# Altium schematic symbol library SUPI_MediumR2.SchLib: 20 symbols
Pins are listed as number, name and electrical type; pins without a type are passive.

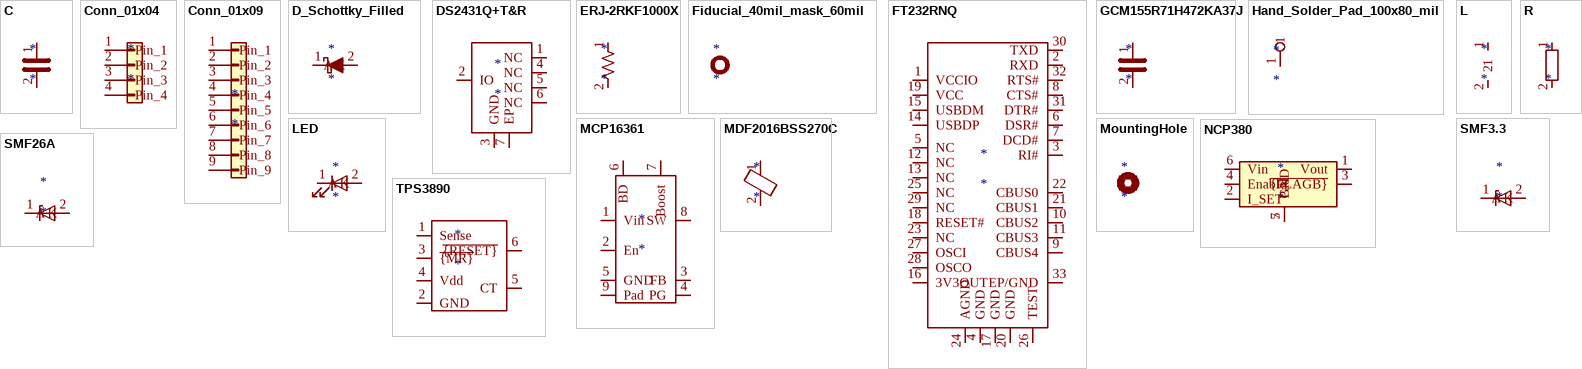
[diagram p0: symbols C to TPS3890]

## C
designator *
pins: 1, 2

## Conn_01x04
designator *
pins: 1 Pin_1, 2 Pin_2, 3 Pin_3, 4 Pin_4

## Conn_01x09
designator *
pins: 1 Pin_1, 2 Pin_2, 3 Pin_3, 4 Pin_4, 5 Pin_5, 6 Pin_6, 7 Pin_7, 8 Pin_8, 9 Pin_9

## D_Schottky_Filled
designator *
pins: 1 K, 2 A

## DS2431Q+T&R
designator *
pins: 1 NC, 2 IO, 3 GND, 4 NC, 5 NC, 6 NC, 7 EP

## ERJ-2RKF1000X
designator *
pins: 1, 2

## Fiducial_40mil_mask_60mil
designator *

## FT232RNQ
designator *
pins: 1 VCCIO, 2 RXD, 3 RI#, 4 GND, 5 NC, 6 DSR#, 7 DCD#, 8 CTS#, 9 CBUS4, 10 CBUS2, 11 CBUS3, 12 NC, 13 NC, 14 USBDP, 15 USBDM, 16 3V3OUT, 17 GND, 18 RESET#, 19 VCC, 20 GND, 21 CBUS1, 22 CBUS0, 23 NC, 24 AGND, 25 NC, 26 TEST, 27 OSCI, 28 OSCO, 29 NC, 30 TXD, 31 DTR#, 32 RTS#, 33 EP/GND

## GCM155R71H472KA37J
designator *
pins: 1, 2

## Hand_Solder_Pad_100x80_mil
designator *
pins: 1

## L
designator *
pins: 1, 2

## LED
designator *
pins: 1 K, 2 A

## MCP16361
designator *
pins: 1 Vin, 2 En, 3 FB, 4 PG, 5 GND, 6 BD, 7 Boost, 8 SW, 9 Pad

## MDF2016BSS270C
designator *
pins: 1, 2

## MountingHole
designator *

## NCP380
designator *
pins: 1 Vout, 2 I_SET, 3 ~{{FLAGB}}, 4 Enable, 5 GND, 6 Vin, 7 Pad

## R
designator *
pins: 1, 2

## SMF3.3
designator *
pins: 1 K, 2 A

## SMF26A
designator *
pins: 1 K, 2 A

## TPS3890
designator *
pins: 1 Sense, 2 GND, 3 ~{{MR}}, 4 Vdd, 5 CT, 6 ~{{RESET}}